# Altium schematic symbol library MSPM0C1104SDGS20R.SchLib: 2 symbols
Pins are listed as number, name and electrical type; pins without a type are passive.

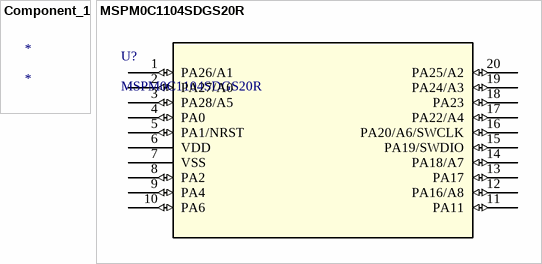
[diagram p0: symbols Component_1 to MSPM0C1104SDGS20R]

## Component_1
designator *

## MSPM0C1104SDGS20R
designator U?
24MHz ArmÂ® CortexÂ®-M0+ MCU with 16KB flash, 1KB SRAM, 12-bit ADC 20-VSSOP -40 to 125; Manufacturer_Name: Texas Instruments; Copyright: Copyright (C) 2025 Ultra Librarian. All rights reserved.; Manufacturer_Part_Number: MSPM0C1104SDGS20R; Datasheet: https://www.ti.com/lit/gpn/mspm0c1104; RefDes: RefDes; Type: Type
footprint DGS0020A_TEX
pins: 1 PA26/A1 (io), 2 PA27/A0 (io), 3 PA28/A5 (io), 4 PA0 (io), 5 PA1/NRST (io), 6 VDD (power), 7 VSS (power), 8 PA2 (io), 9 PA4 (io), 10 PA6 (io), 11 PA11 (io), 12 PA16/A8 (io), 13 PA17 (io), 14 PA18/A7 (io), 15 PA19/SWDIO (io), 16 PA20/A6/SWCLK (io), 17 PA22/A4 (io), 18 PA23 (io), 19 PA24/A3 (io), 20 PA25/A2 (io)